# Altium schematic symbol library E32-433T20S.SchLib: 1 symbol
Pins are listed as number, name and electrical type; pins without a type are passive.

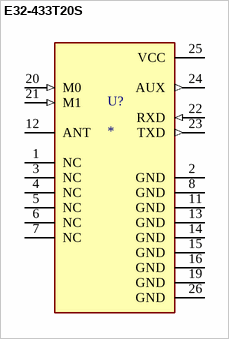
[diagram p0: symbol E32-433T20S]

## E32-433T20S
designator U?
Wireless serial port module (UART); MP: E32-433T20S; MF: EBYTE; Check_prices: https://www.snapeda.com/parts/E32-433T20S/EBYTE/view-part/?ref=eda; Package: Package; Value: *; SnapEDA_Link: https://www.snapeda.com/parts/E32-433T20S/EBYTE/view-part/?ref=snap; Price: None; Availability: Not in stock
footprint MODULE_E32-433T20S
pins: 1 NC, 2 GND (power), 3 NC, 4 NC, 5 NC, 6 NC, 7 NC, 8 GND (power), 11 GND (power), 12 ANT, 13 GND (power), 14 GND (power), 15 GND (power), 16 GND (power), 19 GND (power), 20 M0 (in), 21 M1 (in), 22 RXD (in), 23 TXD (out), 24 AUX (out), 25 VCC (power), 26 GND (power)